# Altium schematic symbol library PBO-5-S5.SchLib: 1 symbol
Pins are listed as number, name and electrical type; pins without a type are passive.

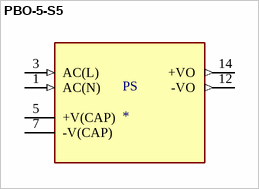
[diagram p0: symbol PBO-5-S5]

## PBO-5-S5
designator PS
5 W, Single Output, Open Frame, Board Mount, Ac-Dc Power Supply; MF: CUI Inc.; MP: PBO-5-S5; Package: SIP-14; Value: *; Availability: Unavailable; SnapEDA_Link: https://www.snapeda.com/parts/PBO-5-S5/CUI/view-part/2859892/?ref=snap; Price: None
footprint CONV_PBO-5-S5
pins: 1 AC(N) (in), 3 AC(L) (in), 5 +V(CAP), 7 -V(CAP), 12 -VO (out), 14 +VO (out)